# EAGLE library part STM32L452CEU6 (library graftel-internal-ic)
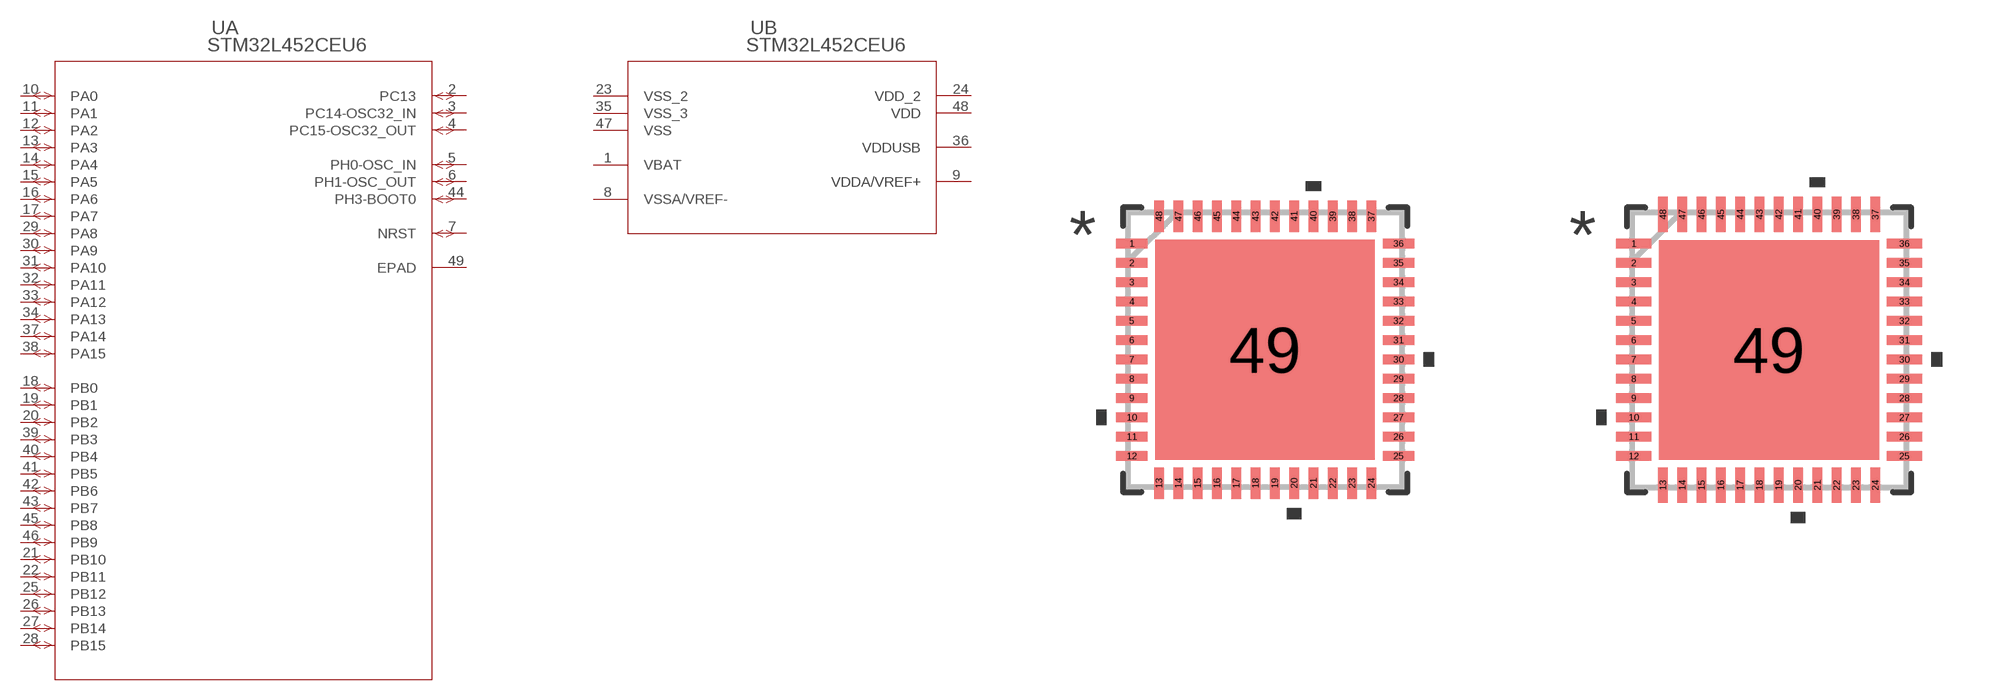
[diagram p89: symbol with the pads of UFQFPN48-7X7MM_STM; footprints UFQFPN48-7X7MM_STM, UFQFPN48-7X7MM_STM-M]

Designator prefix U; gates A=STM32L4X2CXU6_1 B=STM32L4X2CXU6

## STM32L452CEU6 (BUILT_BY: EMA_UL_Team; COPYRIGHT: Copyright (C) 2018 Accelerated Designs. All rights reserved; MANUFACTURER_PART_NUMBER: STM32L452CEU6; SOURCELIBRARY: Updates_to_database_2020-10-19; VENDOR: STMicroelectronics)  [UFQFPN48-7X7MM_STM]
1  B:VBAT  pwr
2  A:PC13
3  A:PC14-OSC32_IN
4  A:PC15-OSC32_OUT
5  A:PH0-OSC_IN
6  A:PH1-OSC_OUT
7  A:NRST
8  B:VSSA/VREF-  pwr
9  B:VDDA/VREF+  pwr
10  A:PA0
11  A:PA1
12  A:PA2
13  A:PA3
14  A:PA4
15  A:PA5
16  A:PA6
17  A:PA7
18  A:PB0
19  A:PB1
20  A:PB2
21  A:PB10
22  A:PB11
23  B:VSS_2  pwr
24  B:VDD_2  pwr
25  A:PB12
26  A:PB13
27  A:PB14
28  A:PB15
29  A:PA8
30  A:PA9
31  A:PA10
32  A:PA11
33  A:PA12
34  A:PA13
35  B:VSS_3  pwr
36  B:VDDUSB  pwr
37  A:PA14
38  A:PA15
39  A:PB3
40  A:PB4
41  A:PB5
42  A:PB6
43  A:PB7
44  A:PH3-BOOT0
45  A:PB8
46  A:PB9
47  B:VSS  pwr
48  B:VDD  pwr
49  A:EPAD  pas

## STM32L452CEU6UFQFPN48-7X7MM_STM-M (BUILT_BY: EMA_UL_Team; COPYRIGHT: Copyright (C) 2018 Accelerated Designs. All rights reserved; MANUFACTURER_PART_NUMBER: STM32L452CEU6; SOURCELIBRARY: Updates_to_database_2020-10-19; VENDOR: STMicroelectronics)  [UFQFPN48-7X7MM_STM-M]
Pads as for UFQFPN48-7X7MM_STM

## STM32L452CEU6UFQFPN48-7X7MM_STM-L (BUILT_BY: EMA_UL_Team; COPYRIGHT: Copyright (C) 2018 Accelerated Designs. All rights reserved; MANUFACTURER_PART_NUMBER: STM32L452CEU6; SOURCELIBRARY: Updates_to_database_2020-10-19; VENDOR: STMicroelectronics)  [UFQFPN48-7X7MM_STM-L]
Pads as for UFQFPN48-7X7MM_STM

## Footprint UFQFPN48-7X7MM_STM (pad centres in mm)
smd 0.813 x 0.254: 1 -3.454,2.75; 2 -3.454,2.25; 3 -3.454,1.75; 4 -3.454,1.25; 5 -3.454,0.75; 6 -3.454,0.25; 7 -3.454,-0.25; 8 -3.454,-0.75; 9 -3.454,-1.25; 10 -3.454,-1.75; 11 -3.454,-2.25; 12 -3.454,-2.75; 25 3.454,-2.75; 26 3.454,-2.25; 27 3.454,-1.75; 28 3.454,-1.25; 29 3.454,-0.75; 30 3.454,-0.25; 31 3.454,0.25; 32 3.454,0.75; 33 3.454,1.25; 34 3.454,1.75; 35 3.454,2.25; 36 3.454,2.75
smd 0.254 x 0.813: 13 -2.75,-3.454; 14 -2.25,-3.454; 15 -1.75,-3.454; 16 -1.25,-3.454; 17 -0.75,-3.454; 18 -0.25,-3.454; 19 0.25,-3.454; 20 0.75,-3.454; 21 1.25,-3.454; 22 1.75,-3.454; 23 2.25,-3.454; 24 2.75,-3.454; 37 2.75,3.454; 38 2.25,3.454; 39 1.75,3.454; 40 1.25,3.454; 41 0.75,3.454; 42 0.25,3.454; 43 -0.25,3.454; 44 -0.75,3.454; 45 -1.25,3.454; 46 -1.75,3.454; 47 -2.25,3.454; 48 -2.75,3.454
smd 5.69 x 5.69: 49 0,0

## Footprint UFQFPN48-7X7MM_STM-M (pad centres in mm)
smd 0.914 x 0.254: 1 -3.505,2.75; 2 -3.505,2.25; 3 -3.505,1.75; 4 -3.505,1.25; 5 -3.505,0.75; 6 -3.505,0.25; 7 -3.505,-0.25; 8 -3.505,-0.75; 9 -3.505,-1.25; 10 -3.505,-1.75; 11 -3.505,-2.25; 12 -3.505,-2.75; 25 3.505,-2.75; 26 3.505,-2.25; 27 3.505,-1.75; 28 3.505,-1.25; 29 3.505,-0.75; 30 3.505,-0.25; 31 3.505,0.25; 32 3.505,0.75; 33 3.505,1.25; 34 3.505,1.75; 35 3.505,2.25; 36 3.505,2.75
smd 0.254 x 0.914: 13 -2.75,-3.505; 14 -2.25,-3.505; 15 -1.75,-3.505; 16 -1.25,-3.505; 17 -0.75,-3.505; 18 -0.25,-3.505; 19 0.25,-3.505; 20 0.75,-3.505; 21 1.25,-3.505; 22 1.75,-3.505; 23 2.25,-3.505; 24 2.75,-3.505; 37 2.75,3.505; 38 2.25,3.505; 39 1.75,3.505; 40 1.25,3.505; 41 0.75,3.505; 42 0.25,3.505; 43 -0.25,3.505; 44 -0.75,3.505; 45 -1.25,3.505; 46 -1.75,3.505; 47 -2.25,3.505; 48 -2.75,3.505
smd 5.69 x 5.69: 49 0,0

## Footprint UFQFPN48-7X7MM_STM-L (pad centres in mm)
smd 0.711 x 0.254: 1 -3.404,2.75; 2 -3.404,2.25; 3 -3.404,1.75; 4 -3.404,1.25; 5 -3.404,0.75; 6 -3.404,0.25; 7 -3.404,-0.25; 8 -3.404,-0.75; 9 -3.404,-1.25; 10 -3.404,-1.75; 11 -3.404,-2.25; 12 -3.404,-2.75; 25 3.404,-2.75; 26 3.404,-2.25; 27 3.404,-1.75; 28 3.404,-1.25; 29 3.404,-0.75; 30 3.404,-0.25; 31 3.404,0.25; 32 3.404,0.75; 33 3.404,1.25; 34 3.404,1.75; 35 3.404,2.25; 36 3.404,2.75
smd 0.254 x 0.711: 13 -2.75,-3.404; 14 -2.25,-3.404; 15 -1.75,-3.404; 16 -1.25,-3.404; 17 -0.75,-3.404; 18 -0.25,-3.404; 19 0.25,-3.404; 20 0.75,-3.404; 21 1.25,-3.404; 22 1.75,-3.404; 23 2.25,-3.404; 24 2.75,-3.404; 37 2.75,3.404; 38 2.25,3.404; 39 1.75,3.404; 40 1.25,3.404; 41 0.75,3.404; 42 0.25,3.404; 43 -0.25,3.404; 44 -0.75,3.404; 45 -1.25,3.404; 46 -1.75,3.404; 47 -2.25,3.404; 48 -2.75,3.404
smd 5.69 x 5.69: 49 0,0